# Altium footprint library MainPcblib.PcbLib: 316 footprints (part 14 of 20)
Each footprint in its own frame and in the unit in brackets; x right, y up, seen from the top. Pads: shape width x height; smd on the part's side, far side on the other; paste and mask are expansions set on the pad; w line width, h text height; cw(c..) or ccw(c..) is an arc to the next point about the centre after c.
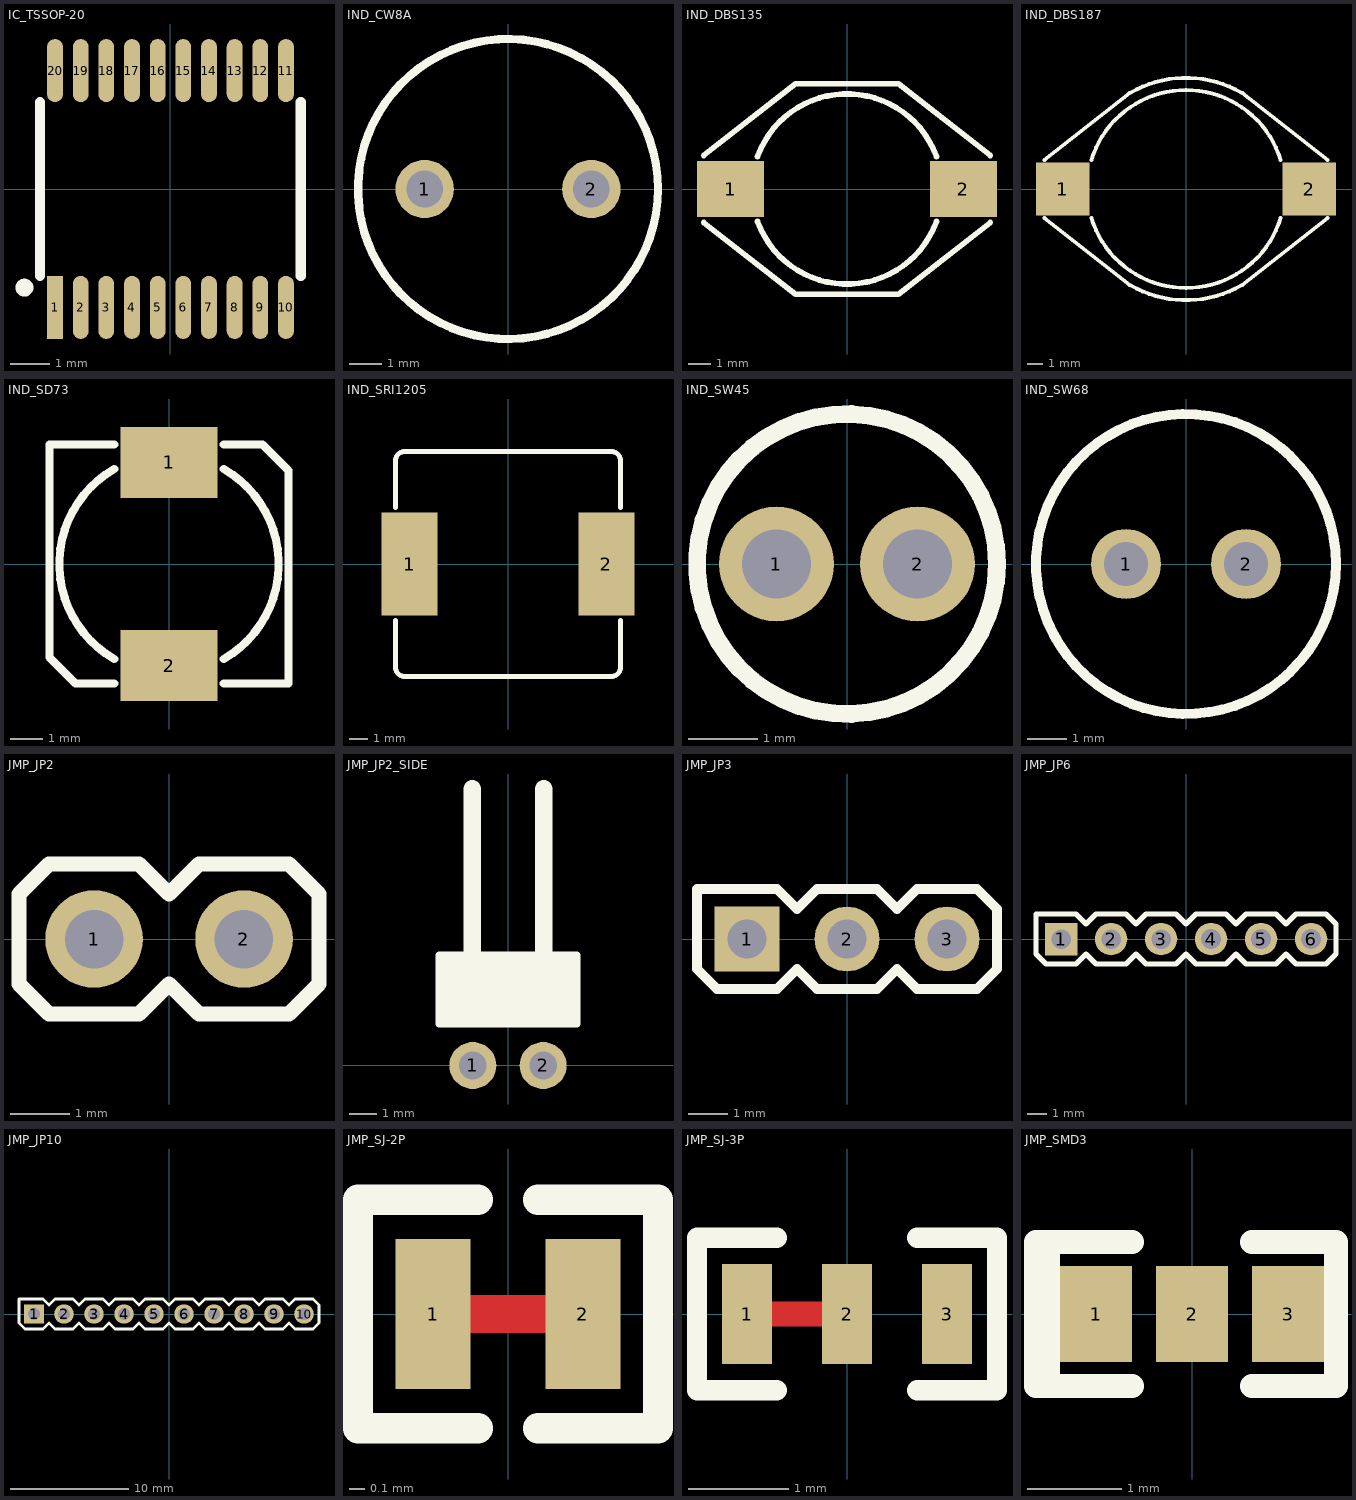
[diagram p13: the footprints below, top view; thin cyan lines are the x and y axes]

## IC_TSSOP-20 [mm]
pads (20):
  rect 0.4x1.6 smd: 1(-2.925,-3)
  oval 0.4x1.6 smd: 2(-2.275,-3) 3(-1.625,-3) 4(-0.975,-3) 5(-0.325,-3) 6(0.325,-3) 7(0.975,-3) 8(1.625,-3) 9(2.275,-3) 10(2.925,-3) 11(2.925,3) 12(2.275,3) 13(1.625,3) 14(0.975,3) 15(0.325,3) 16(-0.325,3) 17(-0.975,3) 18(-1.625,3) 19(-2.275,3) 20(-2.925,3)
Top Overlay:
  circle w0.254: c-3.7,-2.5 r0.1
  lines w0.254: -3.3,-2.2 -3.3,2.2 ; 3.3,-2.2 3.3,2.2

## IND_CW8A [mil] "inductor"
height 472.44
pads (2):
  round 70 hole 44: 1(-100,0) 2(100,0)
Top Overlay:
  circle w10: c0,0 r180

## IND_DBS135 [mm] "SMD Inductor"
height 5.5
pads (2):
  rect 3x2.5 smd: 1(-5.2,0) 2(5.2,0)
Top Overlay:
  lines w0.254: -6.4,-1.5 -2.3,-4.7 2.3,-4.7 6.4,-1.5 ; -6.4,1.5 -2.3,4.7 2.3,4.7 6.4,1.5 ; -3.994,-1.454 ccw(c0,0) 3.994,-1.454 ; -3.994,1.454 cw(c0,0) 3.994,1.454

## IND_DBS187 [mm] "SMD Inductor"
height 7.5
pads (2):
  rect 3.5x3.5 smd: 1(-8.1,0) 2(8.1,0)
Top Overlay:
  lines w0.254: -9.3,-1.9 -3.7,-6.3 ; -9.3,1.9 -3.7,6.3 ; -6.216,-1.9 ccw(c0,0) 6.216,-1.9 ; -6.216,1.9 cw(c0,0) 6.216,1.9 ; -3.65,-6.322 ccw(c0,0) 3.65,-6.322 ; -3.65,6.322 cw(c0,0) 3.65,6.322 ; 3.7,-6.3 9.3,-1.9 ; 3.7,6.3 9.3,1.9

## IND_SD73 [mm] "SMD inductor"
height 3.5
pads (2):
  rect 3x2.2 smd: 1(0,3.15) 2(0,-3.15)
Top Overlay:
  lines w0.254: -1.7,-3.7 -2.9,-3.7 -3.7,-2.9 -3.7,3.7 -1.7,3.7 ; -1.7,-2.944 cw(c0,0) -1.7,2.944 ; 1.7,-3.7 3.7,-3.7 3.7,2.9 2.9,3.7 1.7,3.7 ; 1.7,-2.944 ccw(c0,0) 1.7,2.944

## IND_SRI1205 [mm]
pads (2):
  rect 3x5.5 smd: 1(-5.25,0) 2(5.25,0)
Top Overlay:
  lines w0.254: -6,-3 -6,-5.5 ccw(c-5.5,-5.5) -5.5,-6 5.5,-6 ccw(c5.5,-5.5) 6,-5.5 6,-3 ; -6,3 -6,5.5 cw(c-5.5,5.5) -5.5,6 5.5,6 cw(c5.5,5.5) 6,5.5 6,3

## IND_SW45 [mil] "inductor"
height 196.85
pads (2):
  round 65 hole 39: 1(-40,0) 2(40,0)
Top Overlay:
  circle w10: c0,0 r85

## IND_SW68 [mil] "inductor"
height 295.28
pads (2):
  round 70 hole 44: 1(-60,0) 2(60,0)
Top Overlay:
  circle w10: c0,0 r150

## JMP_JP2 [mil] "Jumper,2pin"
pads (2):
  round 65 hole 39: 1(-50,0) 2(50,0)
Top Overlay:
  lines w10: -100,-30 -100,30 -80,50 -20,50 0,30 20,50 80,50 100,30 100,-30 80,-50 20,-50 0,-30 -20,-50 -80,-50 -100,-30

## JMP_JP2_SIDE [mm] "Jumper,2pin"
pads (2):
  round 1.7 hole 1: 1(-1.27,0) 2(1.27,0)
Top Overlay:
  rectangle: -2.5,1.5 2.5,4
  lines w0.254: -2.5,1.5 -2.5,4 2.5,4 2.5,1.5 -2.5,1.5
  lines w0.635: -1.3,4 -1.3,10 ; 1.3,4 1.3,10

## JMP_JP3 [mil] "Jumper,3pin"
pads (3):
  rect 65x65 hole 39: 1(-100,0)
  round 65 hole 39: 2(0,0) 3(100,0)
Top Overlay:
  lines w10: -150,-30 -130,-50 -70,-50 -50,-30 -30,-50 30,-50 50,-30 70,-50 130,-50 150,-30 150,30 130,50 70,50 50,30 30,50 -30,50 -50,30 -70,50 -150,50 -150,30 -150,-30

## JMP_JP6 [mil] "Jumper header, 6pin"
pads (6):
  rect 65x65 hole 39: 1(-250,0)
  round 65 hole 39: 2(-150,0) 3(-50,0)
  round 65 hole 39.02: 4(50,0) 5(150,0) 6(250,0)
Top Overlay:
  lines w10: -300,-30 -300,30 -300,50 -220,50 -200,30 -180,50 -120,50 -100,30 -80,50 -20,50 0,30 20,50 80,50 100,30 120,50 180,50 200,30 220,50 280,50 300,30 300,-30 280,-50 220,-50 200,-30 180,-50 120,-50 100,-30 80,-50 20,-50 0,-30 -20,-50 -80,-50 -100,-30 -120,-50 -180,-50 -200,-30 -220,-50 -280,-50 -300,-30

## JMP_JP10 [mil] "Jumper header, 10pin"
pads (10):
  rect 65x65 hole 39: 1(-450,0)
  round 65 hole 39: 2(-350,0) 3(-250,0) 7(150,0)
  round 65 hole 39.02: 4(-150,0) 5(-50,0) 6(50,0) 8(250,0) 9(350,0) 10(450,0)
Top Overlay:
  lines w10: -500,-30 -480,-50 -420,-50 -400,-30 -380,-50 -320,-50 -300,-30 -280,-50 -220,-50 -200,-30 -180,-50 -120,-50 -100,-30 -80,-50 -20,-50 0,-30 20,-50 80,-50 100,-30 120,-50 180,-50 200,-30 220,-50 280,-50 300,-30 320,-50 380,-50 400,-30 420,-50 480,-50 500,-30 500,30 480,50 420,50 400,30 380,50 320,50 300,30 280,50 220,50 200,30 180,50 120,50 100,30 80,50 20,50 0,30 -20,50 -80,50 -100,30 -120,50 -180,50 -200,30 -220,50 -280,50 -300,30 -320,50 -380,50 -400,30 -420,50 -500,50 -500,30 -500,-30

## JMP_SJ-2P [mm]
pads (2):
  rect 0.5x1 smd: 1(-0.5,0) 2(0.5,0)
Top Layer:
  lines w0.254: -0.5,0 0.5,0
Top Overlay:
  lines w0.203: -0.2,-0.762 -1,-0.762 -1,0.762 -0.2,0.762 ; 0.2,-0.762 1,-0.762 1,0.762 0.2,0.762

## JMP_SJ-3P [mm]
pads (3):
  rect 0.5x1 smd: 1(-1,0) 2(0,0) 3(1,0)
Top Layer:
  lines w0.254: -1,0 0,0
Top Overlay:
  lines w0.203: -0.7,-0.762 -1.5,-0.762 -1.5,0.762 -0.7,0.762 ; 0.7,-0.762 1.5,-0.762 1.5,0.762 0.7,0.762

## JMP_SMD3 [mil] "SMD Jumper 3pin"
pads (3):
  rect 30x40 smd: 1(-40,0) 2(0,0) 3(40,0)
Top Overlay:
  lines w10: -60,-30 -60,30 ; -25,-30 -65,-30 -65,30 -25,30 ; 25,-30 60,-30 60,30 25,30